# EAGLE library part CART (library snes_mb)
62-pin SNES cart edge with expansion connectors Credits : Quertymodo
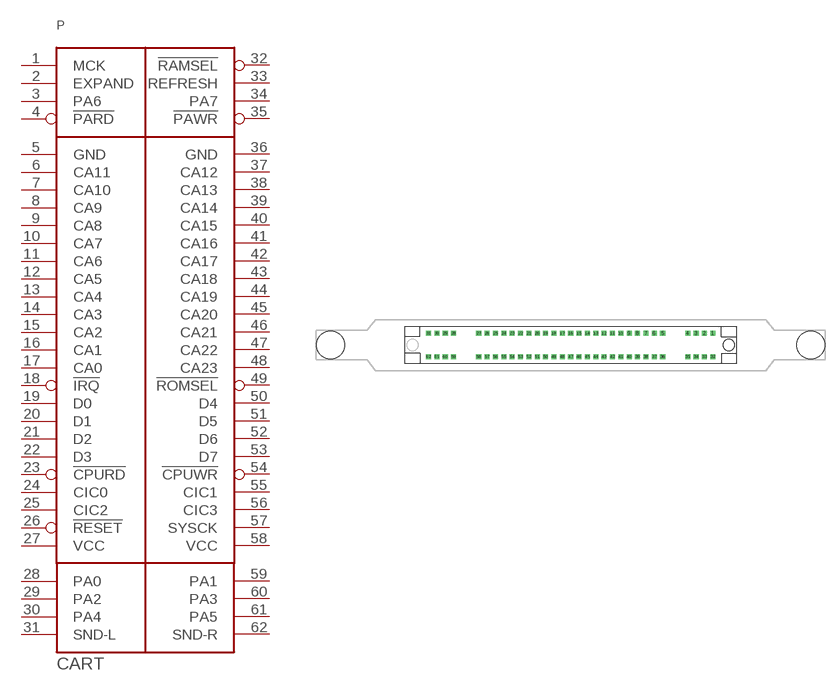
[diagram p0: symbol with the pads of CART-SLOT; footprint CART-SLOT]

Designator prefix P

## CART-SLOT  [CART-SLOT]
1  MCK  in
2  EXPAND  in
3  PA6  in
4  !PARD  in
5  GND  pwr
6  CA11  in
7  CA10  in
8  CA9  in
9  CA8  in
10  CA7  in
11  CA6  in
12  CA5  in
13  CA4  in
14  CA3  in
15  CA2  in
16  CA1  in
17  CA0  in
18  !IRQ  out
19  D0
20  D1
21  D2
22  D3
23  !CPURD  in
24  CIC0  out
25  CIC2  in
26  !RESET  in
27  VCC  pwr
28  PA0  in
29  PA2  in
30  PA4  in
31  SND-L  in
32  !RAMSEL  in
33  REFRESH  in
34  PA7  in
35  !PAWR  in
36  GND  pwr
37  CA12  in
38  CA13  in
39  CA14  in
40  CA15  in
41  CA16  in
42  CA17  in
43  CA18  in
44  CA19  in
45  CA20  in
46  CA21  in
47  CA22  in
48  CA23  in
49  !ROMSEL  in
50  D4
51  D5
52  D6
53  D7
54  !CPUWR  in
55  CIC1  out
56  CIC3  in
57  SYSCK  in
58  VCC  pwr
59  PA1  in
60  PA3  in
61  PA5  in
62  SND-R  in

## Footprint CART-SLOT (pad centres in mm)
SNES Cartridge Slot
drill 1 pad 1.5 square: 1 42.5,3.5; 2 40,3.5; 3 37.5,3.5; 4 35,3.5; 5 27.5,3.5; 6 25,3.5; 7 22.5,3.5; 8 20,3.5; 9 17.5,3.5; 10 15,3.5; 11 12.5,3.5; 12 10,3.5; 13 7.5,3.5; 14 5,3.5; 15 2.5,3.5; 16 0,3.5; 17 -2.5,3.5; 18 -5,3.5; 19 -7.5,3.5; 20 -10,3.5; 21 -12.5,3.5; 22 -15,3.5; 23 -17.5,3.5; 24 -20,3.5; 25 -22.5,3.5; 26 -25,3.5; 27 -27.5,3.5; 28 -35,3.5; 29 -37.5,3.5; 30 -40,3.5; 31 -42.5,3.5; 32 42.5,-3.5; 33 40,-3.5; 34 37.5,-3.5; 35 35,-3.5; 36 27.5,-3.5; 37 25,-3.5; 38 22.5,-3.5; 39 20,-3.5; 40 17.5,-3.5; 41 15,-3.5; 42 12.5,-3.5; 43 10,-3.5; 44 7.5,-3.5; 45 5,-3.5; 46 2.5,-3.5; 47 0,-3.5; 48 -2.5,-3.5; 49 -5,-3.5; 50 -7.5,-3.5; 51 -10,-3.5; 52 -12.5,-3.5; 53 -15,-3.5; 54 -17.5,-3.5; 55 -20,-3.5; 56 -22.5,-3.5; 57 -25,-3.5; 58 -27.5,-3.5; 59 -35,-3.5; 60 -37.5,-3.5; 61 -40,-3.5; 62 -42.5,-3.5
hole 8.255 at -71.787,0
hole 8.255 at 71.787,0